# EAGLE library part EX_NRF24L01+ (library rf_connect)
nRF24L01+ Breakout Connector Use device (footprint and symbol) as a connector for the cheap nRF radio modules commonly found on eBay and Amazon
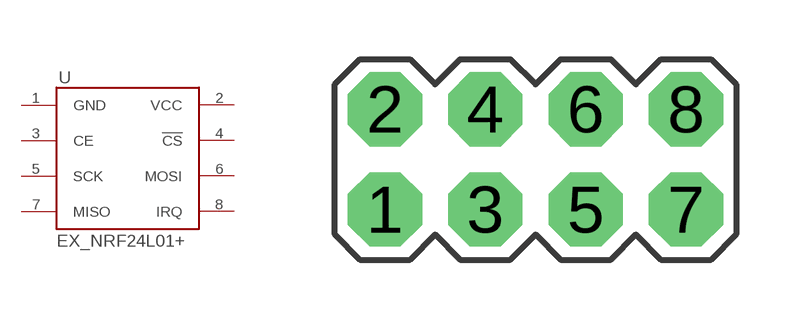
[diagram p0: symbol with the pads of 2X4; footprint 2X4]

Designator prefix U

## EX_NRF24L01+  [2X4]
1  GND
2  VCC
3  CE
4  !CS
5  SCK
6  MOSI
7  MISO
8  IRQ

## Footprint 2X4 (pad centres in mm)
drill 1.016 pad 1.88 octagon: 1 -3.81,-1.27; 2 -3.81,1.27; 3 -1.27,-1.27; 4 -1.27,1.27; 5 1.27,-1.27; 6 1.27,1.27; 7 3.81,-1.27; 8 3.81,1.27